# EAGLE library part HEF4049 (library Projeto_Nicolau)
HEF4049 - Seis inversores lógicos
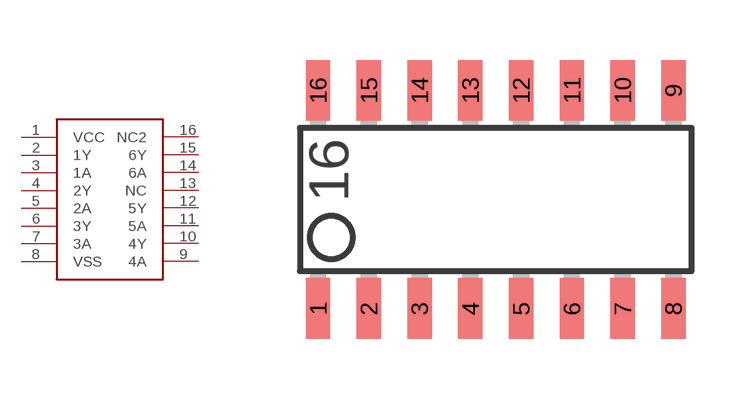
[diagram p3: symbol with the pads of SO16; footprint SO16]

Designator prefix HEF

## HEF4049  [SO16]
1  VCC  pwr
2  1Y  out
3  1A  in
4  2Y  out
5  2A  in
6  3Y  out
7  3A  in
8  VSS  pwr
9  4A  in
10  4Y  out
11  5A  in
12  5Y  out
13  NC  nc
14  6A  in
15  6Y  out
16  NC2  nc

## Footprint SO16 (pad centres in mm)
smd 0.61 x 1.524: 1 -4.445,-2.794; 2 -3.175,-2.794; 3 -1.905,-2.794; 4 -0.635,-2.794; 5 0.635,-2.794; 6 1.905,-2.794; 7 3.175,-2.794; 8 4.445,-2.794; 9 4.445,2.667; 10 3.175,2.667; 11 1.905,2.667; 12 0.635,2.667; 13 -0.635,2.667; 14 -1.905,2.667; 15 -3.175,2.667; 16 -4.445,2.667